# EAGLE library part 146823 (library micro-motorola)
MICROCONTROLLER/MEMORY DEVICE
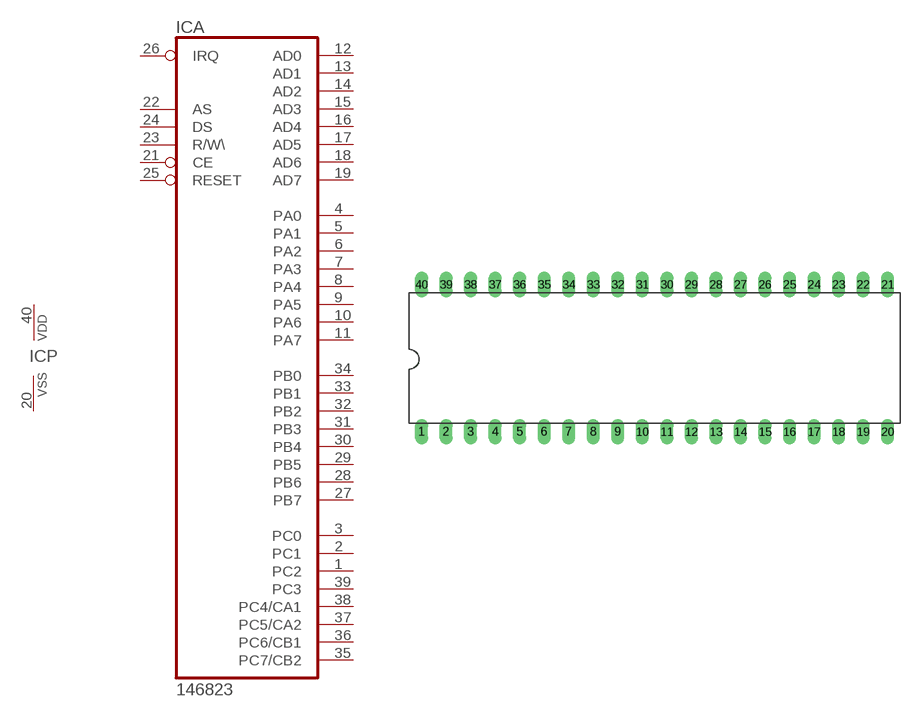
[diagram p32: symbol with the pads of DIL40; footprint DIL40]

Designator prefix IC; gates A=146823 P=VSSVDD

## 146823  [DIL40]
1  A:PC2
2  A:PC1
3  A:PC0
4  A:PA0
5  A:PA1
6  A:PA2
7  A:PA3
8  A:PA4
9  A:PA5
10  A:PA6
11  A:PA7
12  A:AD0
13  A:AD1
14  A:AD2
15  A:AD3
16  A:AD4
17  A:AD5
18  A:AD6
19  A:AD7
20  P:VSS  pwr
21  A:CE  in
22  A:AS  in
23  A:R/W\  in
24  A:DS  in
25  A:RESET  in
26  A:IRQ  out
27  A:PB7
28  A:PB6
29  A:PB5
30  A:PB4
31  A:PB3
32  A:PB2
33  A:PB1
34  A:PB0
35  A:PC7/CB2
36  A:PC6/CB1
37  A:PC5/CA2
38  A:PC4/CA1
39  A:PC3
40  P:VDD  pwr

## Footprint DIL40 (pad centres in mm)
Dual In Line Package
drill 0.813 long: 1 -24.13,-7.62; 2 -21.59,-7.62; 3 -19.05,-7.62; 4 -16.51,-7.62; 5 -13.97,-7.62; 6 -11.43,-7.62; 7 -8.89,-7.62; 8 -6.35,-7.62; 9 -3.81,-7.62; 10 -1.27,-7.62; 11 1.27,-7.62; 12 3.81,-7.62; 13 6.35,-7.62; 14 8.89,-7.62; 15 11.43,-7.62; 16 13.97,-7.62; 17 16.51,-7.62; 18 19.05,-7.62; 19 21.59,-7.62; 20 24.13,-7.62; 21 24.13,7.62; 22 21.59,7.62; 23 19.05,7.62; 24 16.51,7.62; 25 13.97,7.62; 26 11.43,7.62; 27 8.89,7.62; 28 6.35,7.62; 29 3.81,7.62; 30 1.27,7.62; 31 -1.27,7.62; 32 -3.81,7.62; 33 -6.35,7.62; 34 -8.89,7.62; 35 -11.43,7.62; 36 -13.97,7.62; 37 -16.51,7.62; 38 -19.05,7.62; 39 -21.59,7.62; 40 -24.13,7.62